# EAGLE library part 74LVC157APW,118 (library SamacSys_Parts)
NEXPERIA - 74LVC157APW,118 - MUX, QUAD, 8 I/P, TSSOP-16 Source: Datasheet <https://assets.nexperia.com/documents/data-sheet/74LVC157A.pdf>
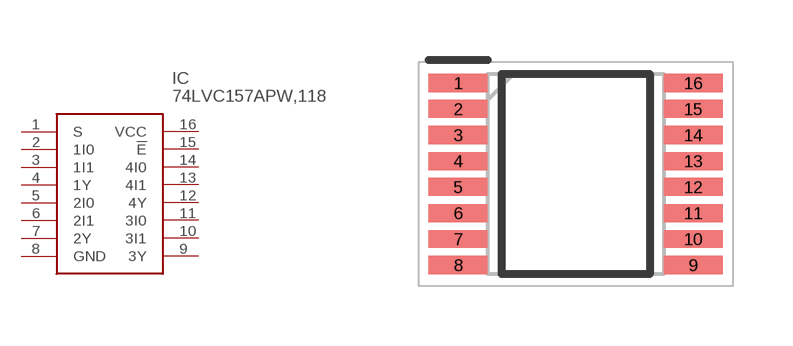
[diagram p70: symbol with the pads of SOP65P640X110-16N; footprint SOP65P640X110-16N]

Designator prefix IC

## 74LVC157APW,118 (DESCRIPTION: NEXPERIA - 74LVC157APW,118 - MUX, QUAD, 8 I/P, TSSOP-16; HEIGHT: 1.1mm; MANUFACTURER_NAME: Nexperia; MANUFACTURER_PART_NUMBER: 74LVC157APW,118; MOUSER_PART_NUMBER: 771-74LVC157APW-T; MOUSER_PRICE-STOCK: https://www.mouser.co.uk/ProductDetail/Nexperia/74LVC157APW118?qs=me8TqzrmIYWzCqHfrjyLrQ%3D%3D)  [SOP65P640X110-16N]
1  S
2  1I0
3  1I1
4  1Y
5  2I0
6  2I1
7  2Y
8  GND
9  3Y
10  3I1
11  3I0
12  4Y
13  4I1
14  4I0
15  !E
16  VCC

## Footprint SOP65P640X110-16N (pad centres in mm)
SOT403-1
smd 1.475 x 0.45: 1 -2.938,2.275; 2 -2.938,1.625; 3 -2.938,0.975; 4 -2.938,0.325; 5 -2.938,-0.325; 6 -2.938,-0.975; 7 -2.938,-1.625; 8 -2.938,-2.275; 9 2.938,-2.275; 10 2.938,-1.625; 11 2.938,-0.975; 12 2.938,-0.325; 13 2.938,0.325; 14 2.938,0.975; 15 2.938,1.625; 16 2.938,2.275